# Altium schematic symbol library SW DIP-3.Schlib: 1 symbol
Pins are listed as number, name and electrical type; pins without a type are passive.

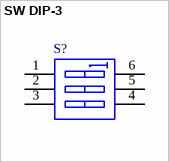
[diagram p0: symbol SW DIP-3]

## SW DIP-3
designator S?
DIP Switch, 3 Position, SPST
pins: 1 A1, 2 A2, 3 A3, 4 B3, 5 B2, 6 B1